# Altium footprint library SC-70 SOT-323 UMT3.PcbLib: 1 footprints
Each footprint in its own frame and in the unit in brackets; x right, y up, seen from the top. Pads: shape width x height; smd on the part's side, far side on the other; paste and mask are expansions set on the pad; w line width, h text height; cw(c..) or ccw(c..) is an arc to the next point about the centre after c.
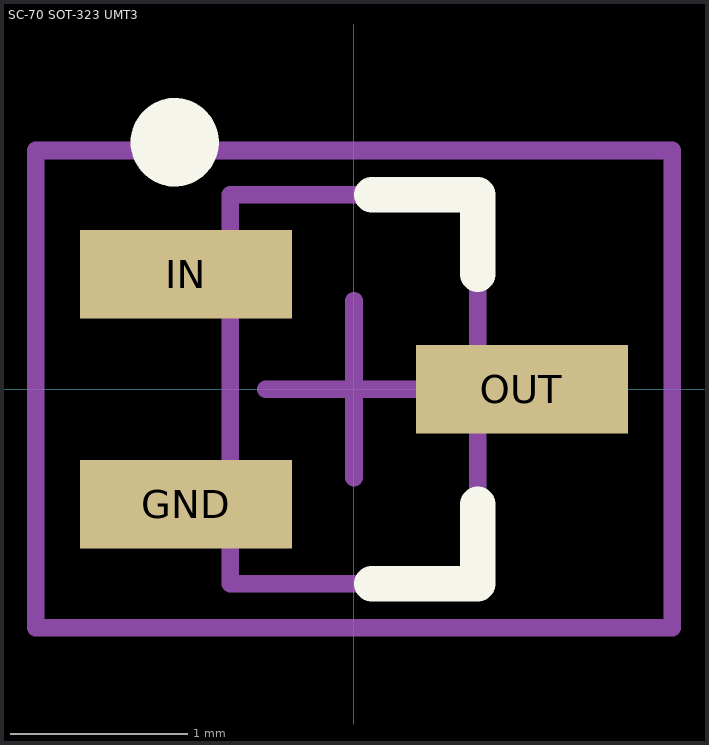
[diagram p0: the footprint, top view; thin cyan lines are the x and y axes]

## SC-70 SOT-323 UMT3 [mm]
pads (3):
  rect 1.2x0.5 smd: GND(-0.95,-0.65) IN(-0.95,0.65) OUT(0.95,0)
Top Overlay:
  circle w0.25: c-1.014,1.397 r0.125
  lines w0.2: 0.1,-1.1 0.7,-1.1 0.7,-0.65 ; 0.1,1.1 0.7,1.1 0.7,0.65
Mechanical 13:
  lines w0.1: -0.7,-1.1 -0.7,1.1 0.7,1.1 0.7,-1.1 -0.7,-1.1
Mechanical 15:
  lines w0.1: -0.5,0 0.5,0 ; 0,-0.5 0,0.5 ; -1.8,-1.35 -1.8,1.35 1.8,1.35 1.8,-1.35 -1.8,-1.35
3D body "User Library-sc70-3.STEP": height 1, standoff 0, extent -1.143,-1.05 1.157,1.05